# Altium schematic symbol library 280384-1.SchLib: 1 symbol
Pins are listed as number, name and electrical type; pins without a type are passive.

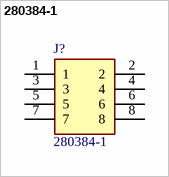
[diagram p0: symbol 280384-1]

## 280384-1
designator J?
2X4P AMPMODU II SHRD HDR, ST, TIN; Manufacturer_Name: TE Connectivity; Geometry.Height: 12.8mm; TME Electronic Components Part Number: *; TME Electronic Components Price/Stock: *; Manufacturer_Part_Number: 280384-1; Datasheet Link: https://www.te.com/commerce/DocumentDelivery/DDEController?Action=showdoc&DocId=Customer+Drawing%7F280384%7FU%7Fpdf%7FEnglish%7FENG_CD_280384_U.pdf%7F280384-1
footprint 2803841
pins: 1, 2, 3, 4, 5, 6, 7, 8